# Altium integrated library Linear Technology PMIC-Switching Reg LTC1174-LTC3901.IntLib: 2647 symbols (part 37 of 310)
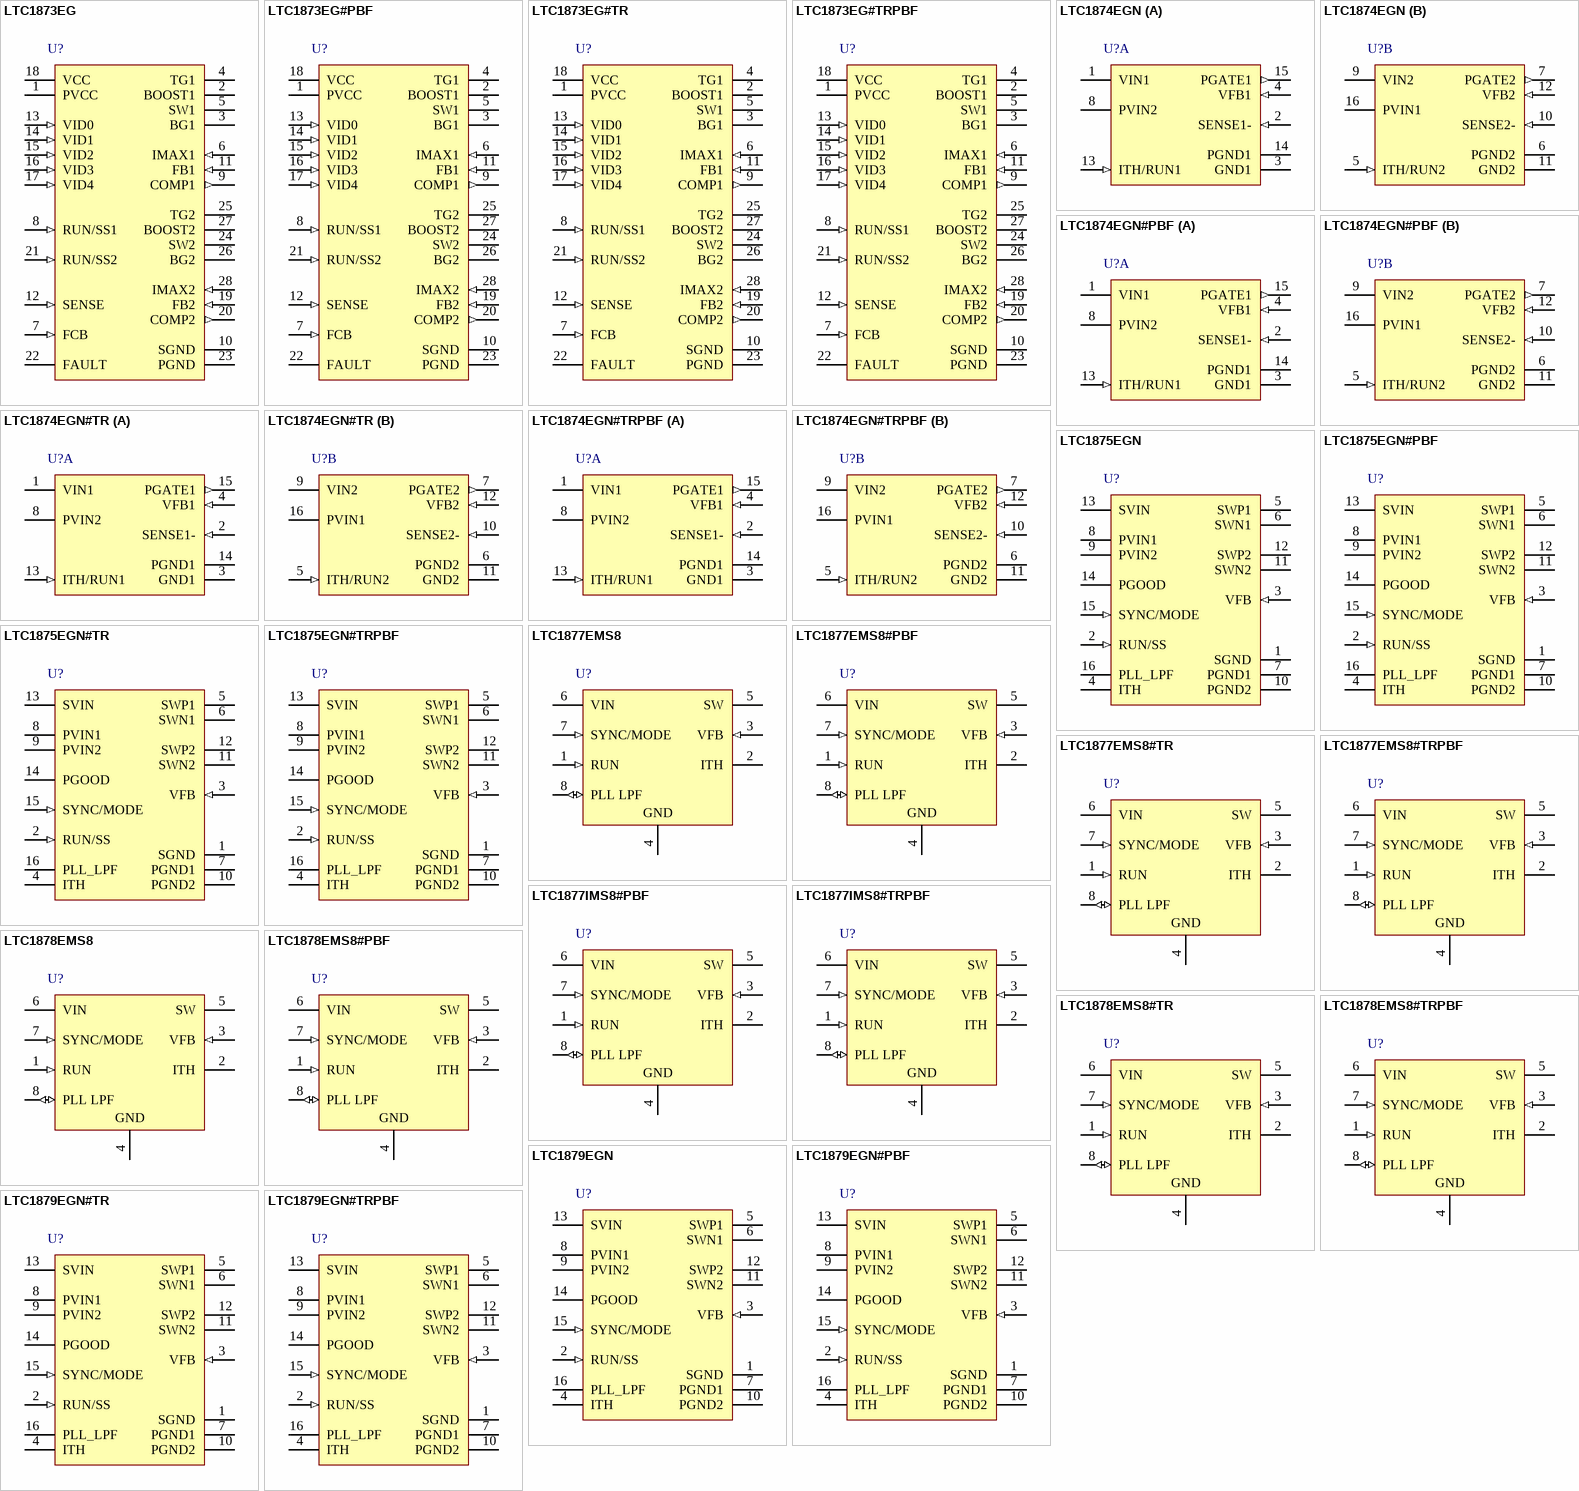
[diagram p236: symbols LTC1873EG to LTC1879EGN#TRPBF]

## LTC1877IMS8#PBF
designator U?
High Efficiency Monolithic Synchronous Step-Down Regulator, 8-pin SOP (MS8-8), -40 to 85 degC, Pb-Free; Manufacturer: Linear Technology; PartNumber: LTC1877IMS8#PBF; Number of Outputs: 1; PackageReference: MS8; PackageDescription: 8-Pin Plastic MSOP, Body 3 x 3 mm, Pitch 0.65 mm; Supplier 1: Digi-Key; Supplier Part Number 1: LTC1877IMS8#PBF-ND; RoHS: TRUE
footprint LT-MS8_N (SOP, 8-Leads, Body 3.1x3.1mm, Pitch 0.65mm, IPC Medium Density)
footprint LT-MS8_L (SOP, 8-Leads, Body 3.1x3.1mm, Pitch 0.65mm, IPC High Density)
footprint LT-MS8_M (SOP, 8-Leads, Body 3.1x3.1mm, Pitch 0.65mm, IPC Low Density)
pins: 1 RUN (in), 2 ITH "Error Amplifier Compensation Point. The current comparator threshold increases with this control voltage. Nominal voltage range for this pin is from 0.5V to 1.9V", 3 VFB (in) "Feedback Pin. Receives the feedback voltage from an external resistive divider across the output.", 4 GND (power) "Ground Pin.", 5 SW (power) "Switch Node Connection to Inductor. This pin connects to the drains of the internal main and synchronous power MOSFET switches.", 6 VIN (power) "Main Supply Pin. Must be closely decoupled to GND, Pin 4.", 7 SYNC/MODE (in), 8 PLL LPF (io) "Output of the Phase Detector and Control Input of Oscillator. Connect a series RC lowpass network from this pin to ground if externally synchronized. If unused, this pin may be left open."

## LTC1877IMS8#TRPBF
designator U?
High Efficiency Monolithic Synchronous Step-Down Regulator, 8-pin SOP (MS8-8), -40 to 85 degC, Pb-Free, Tape and Reel; Manufacturer: Linear Technology; PartNumber: LTC1877IMS8#TRPBF; Number of Outputs: 1; PackageReference: MS8; PackageDescription: 8-Pin Plastic MSOP, Body 3 x 3 mm, Pitch 0.65 mm; Supplier 1: Digi-Key; Supplier Part Number 1: LTC1877IMS8#TRPBF-ND; RoHS: TRUE
footprint LT-MS8_N (SOP, 8-Leads, Body 3.1x3.1mm, Pitch 0.65mm, IPC Medium Density)
footprint LT-MS8_L (SOP, 8-Leads, Body 3.1x3.1mm, Pitch 0.65mm, IPC High Density)
footprint LT-MS8_M (SOP, 8-Leads, Body 3.1x3.1mm, Pitch 0.65mm, IPC Low Density)
pins: 1 RUN (in), 2 ITH "Error Amplifier Compensation Point. The current comparator threshold increases with this control voltage. Nominal voltage range for this pin is from 0.5V to 1.9V", 3 VFB (in) "Feedback Pin. Receives the feedback voltage from an external resistive divider across the output.", 4 GND (power) "Ground Pin.", 5 SW (power) "Switch Node Connection to Inductor. This pin connects to the drains of the internal main and synchronous power MOSFET switches.", 6 VIN (power) "Main Supply Pin. Must be closely decoupled to GND, Pin 4.", 7 SYNC/MODE (in), 8 PLL LPF (io) "Output of the Phase Detector and Control Input of Oscillator. Connect a series RC lowpass network from this pin to ground if externally synchronized. If unused, this pin may be left open."